# EAGLE library part AS7343 (library pimoroni-ics)
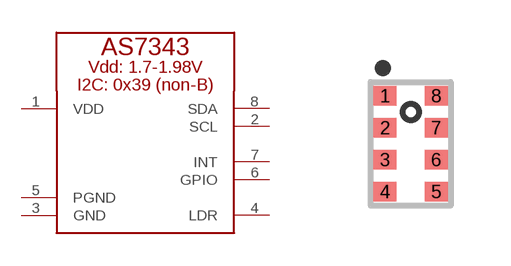
[diagram p164: symbol with the pads of AS7343; footprint AS7343]

Designator prefix U

## AS7343  [AS7343]
1  VDD
2  SCL
3  GND
4  LDR
5  PGND
6  GPIO
7  INT
8  SDA

## Footprint AS7343 (pad centres in mm)
smd 0.575 x 0.488: 1 -0.638,1.2; 2 -0.638,0.4; 3 -0.638,-0.4; 4 -0.638,-1.2; 5 0.638,-1.2; 6 0.638,-0.4; 7 0.638,0.4; 8 0.638,1.2